# Altium schematic symbol library NUCLEO-F401RE.SchLib: 1 symbol
Pins are listed as number, name and electrical type; pins without a type are passive.

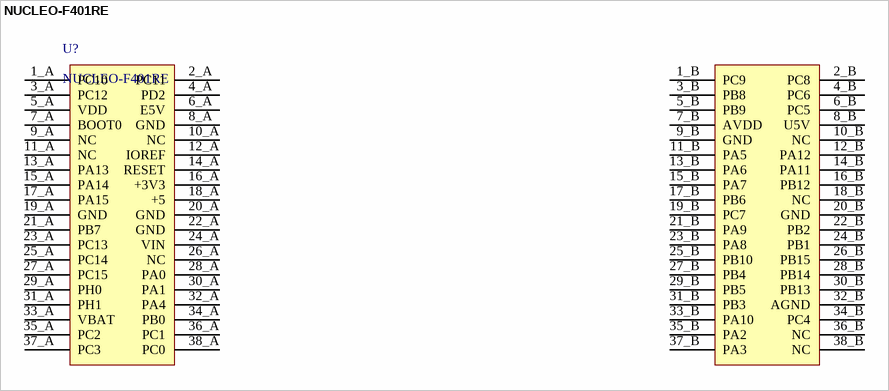
[diagram p0: symbol NUCLEO-F401RE]

## NUCLEO-F401RE
designator U?
pins: 1_A PC10, 1_B PC9, 2_A PC11, 2_B PC8, 3_A PC12, 3_B PB8, 4_A PD2, 4_B PC6, 5_A VDD, 5_B PB9, 6_A E5V, 6_B PC5, 7_A BOOT0, 7_B AVDD, 8_A GND, 8_B U5V, 9_A NC, 9_B GND, 10_A NC, 10_B NC, 11_A NC, 11_B PA5, 12_A IOREF, 12_B PA12, 13_A PA13, 13_B PA6, 14_A RESET, 14_B PA11, 15_A PA14, 15_B PA7, 16_A +3V3, 16_B PB12, 17_A PA15, 17_B PB6, 18_A +5, 18_B NC, 19_A GND, 19_B PC7, 20_A GND, 20_B GND, 21_A PB7, 21_B PA9, 22_A GND, 22_B PB2, 23_A PC13, 23_B PA8, 24_A VIN, 24_B PB1, 25_A PC14, 25_B PB10, 26_A NC, 26_B PB15, 27_A PC15, 27_B PB4, 28_A PA0, 28_B PB14, 29_A PH0, 29_B PB5, 30_A PA1, 30_B PB13, 31_A PH1, 31_B PB3, 32_A PA4, 32_B AGND, 33_A VBAT, 33_B PA10, 34_A PB0, 34_B PC4, 35_A PC2, 35_B PA2, 36_A PC1, 36_B NC, 37_A PC3, 37_B PA3, 38_A PC0, 38_B NC